# EAGLE library part TLC4502 (library mita-akiba)
Texas Instruments Precision CMOS RtoR Oerational Amplifiers Two amps in one package Input Offset current= 1pA Voltage Offset=40uA(4501A), 50uA(4502A), 80uA (4501), 100uA(4502A) VDD=5V, VSS=0V use. (VDD-VSS max 7V)
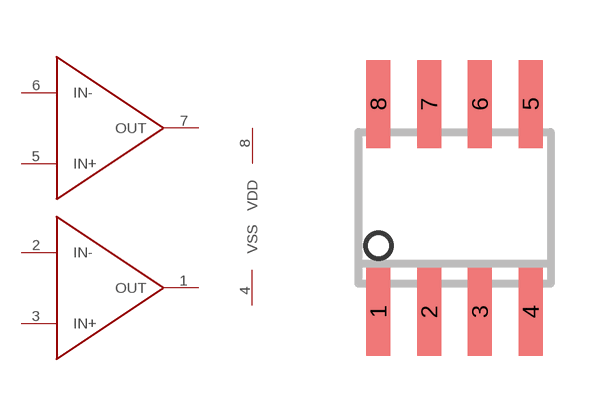
[diagram p4: symbol with the pads of SO8; footprint SO8]

Designator prefix -; gates G$1=TLC450X G$2=TLC450X G$3=VDDVSS

## TLC4502SO  [SO8]
1  G$1:OUT
2  G$1:IN-  in
3  G$1:IN+  in
4  G$3:VSS  pwr
5  G$2:IN+  in
6  G$2:IN-  in
7  G$2:OUT
8  G$3:VDD  pwr

## Footprint SO8 (pad centres in mm)
SMALL OUTLINE INTEGRATED CIRCUIT
smd 0.6 x 2.2: 1 -1.905,-2.6; 2 -0.635,-2.6; 3 0.635,-2.6; 4 1.905,-2.6; 5 1.905,2.6; 6 0.635,2.6; 7 -0.635,2.6; 8 -1.905,2.6